# Altium integrated library Interfaces.IntLib: 4 symbols
Pins are listed as number, name and electrical type; pins without a type are passive.

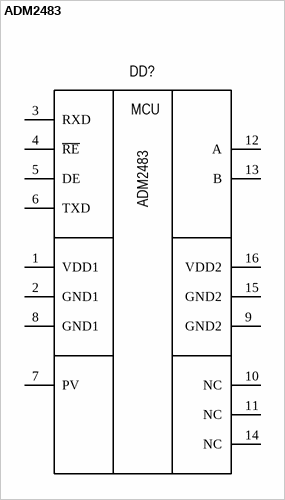
[diagram p0: symbol ADM2483]

## ADM2483
designator DD?
Interface RS485 Transciever ADM2483 SOICW-17; Manufacturer: Analog Devices; Voltage supply: 3.0V - 5.0V; Duplex: Half; Package: SOICW-16; Group: Interface; Part name: ADM2483; Operating temperature: -40°C +85°C; Height: 2.65mm; Dimension: 10.30mm x 10.30mm; Mounting type: Surface mount; Component: RS485; Interface type: RS485
footprint SOIC-16W (7.50mm)
pins: 1 VDD1, 2 GND1, 3 RXD, 4 ~{RE}, 5 DE, 6 TXD, 7 PV, 8 GND1, 9 GND2, 10 NC, 11 NC, 12 A, 13 B, 14 NC, 15 GND2, 16 VDD2
text: MCU


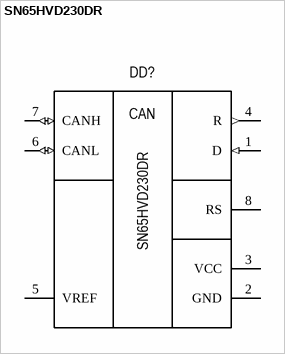
[diagram p1: symbol SN65HVD230DR]

## SN65HVD230DR
designator DD?
Interface CAN Transciever SOIC-8; Manufacturer: Texas Instruments; Voltage supply: 3.0V - 3.6V; Data rate: 1Mbps; Duplex: Half; Package: SOIC-8; Group: Interface; Part name: SN65HVD230DR; Operating temperature: -40°C +85°C; Height: 1.75mm; Dimension: 6.20mm x 5.00mm; Mounting type: Surface mount; Component: CAN; Interface type: CAN
footprint SOIC-8N
pins: 1 D (in) "CAN transmit data input (LOW for dominant and HIGH for recessive bus states), also called TXD, driver", 2 GND "Ground", 3 VCC "Supply", 4 R (out) "CAN receive data output (LOW for dominant and HIGH for recessive bus states), also called RXD, receiver", 5 VREF "VCC / 2 reference output pin", 6 CANL (io) "Low level CAN bus line", 7 CANH (io) "High level CAN bus line", 8 RS "Mode select pin: strong pull down to GND = high speed mode, strong"


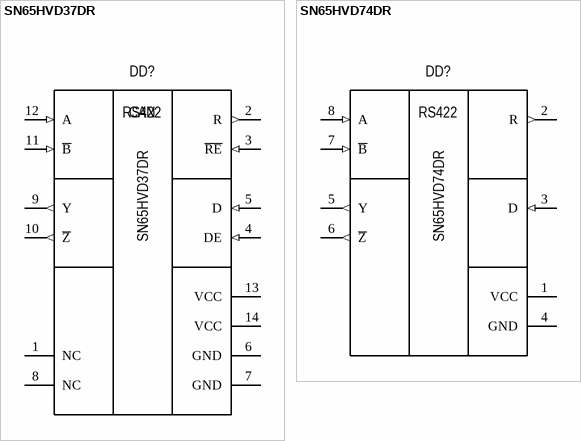
[diagram p2: symbols SN65HVD37DR to SN65HVD74DR]

## SN65HVD37DR
designator DD?
Interface RS422/RS485 Transciever SOIC-14; Manufacturer: Texas Instruments; Voltage supply: 3.0V - 3.6V; Component: RS422; Data rate: 20Mbps; Duplex: Full; Package: SOIC-14; Group: Interface; Part name: SN65HVD37DR; Operating temperature: -40°C +85°C; Height: 1.75mm; Dimension: 8.75mm x 6.20mm; Mounting type: Surface mount; Interface type: RS422/RS485
footprint SOIC-14N
pins: 1 NC "No internal connection", 2 R (out) "Receive data output", 3 ~{RE} (in) "Receive enable", 4 DE (in) "Driver enable", 5 D (in) "Driver data input", 6 GND "Ground", 7 GND "Ground", 8 NC "No internal connection", 9 Y (out) "Digital bus output", 10 ~{Z} (out) "Digital bus output", 11 ~{B} (in) "Digital bus input", 12 A (in) "Digital bus input", 13 VCC "Supply", 14 VCC "Supply"
text: CAN

## SN65HVD74DR
designator DD?
Interface RS422 Transciever  SOIC-8; Manufacturer: Texas Instruments; Voltage supply: 3.0V - 3.6V; Component: RS485; Data rate: 20Mbps; Duplex: Full; Package: SOIC-8; Group: Interface; Part name: SN65HVD74DR; Operating temperature: -40°C +125°C; Height: 1.10mm; Dimension: 5.05mm x 3.10mm; Mounting type: Surface mount; Interface type: RS485
footprint SOIC-8N
pins: 1 VCC "Supply", 2 R (out) "Receive data output", 3 D (in) "Driver data input", 4 GND "Ground", 5 Y (out) "Digital bus output", 6 ~{Z} (out) "Digital bus output", 7 ~{B} (in) "Digital bus input", 8 A (in) "Digital bus input"
text: RS422